# Altium footprint library JST_XH_7_0.PcbLib: 1 footprints
Each footprint in its own frame and in the unit in brackets; x right, y up, seen from the top. Pads: shape width x height; smd on the part's side, far side on the other; paste and mask are expansions set on the pad; w line width, h text height; cw(c..) or ccw(c..) is an arc to the next point about the centre after c.
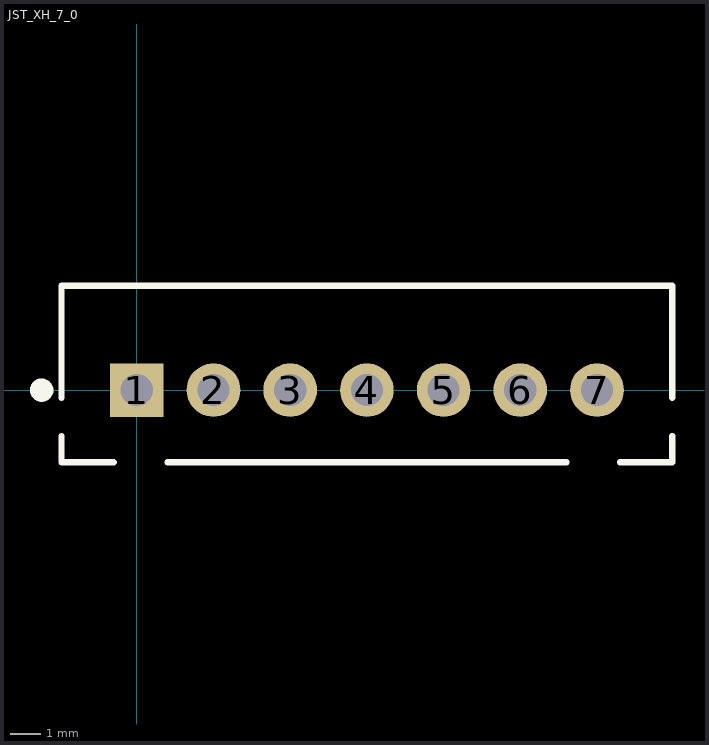
[diagram p0: the footprint, top view; thin cyan lines are the x and y axes]

## JST_XH_7_0 [mm]
pads (7):
  rect 1.75x1.75 hole 1.05: 1(0,0)
  round 1.75 hole 1.05: 2(2.5,0) 3(5,0) 4(7.5,0) 5(10,0) 6(12.5,0) 7(15,0)
Top Overlay:
  circle w0.381: c-3.1,0 r0.191
  lines w0.2: -2.45,-1.5 -2.45,-2.35 -0.75,-2.35 ; -2.45,-0.25 -2.45,3.4 17.45,3.4 17.45,-0.25 ; 1,-2.35 14,-2.35 ; 15.75,-2.35 17.45,-2.35 17.45,-1.5
3D body "JST_XH_1x07_P2.50mm.step": height 7, standoff -3.4, extent -2.45,-2.35 17.45,3.4